# EAGLE library part SX1262 (library angrypig7-IC)
RF Transceiver FSK/GFSK/MSK/GMSK/LoRa/OOK 137MHz to 1020MHz 28-Pin QFN
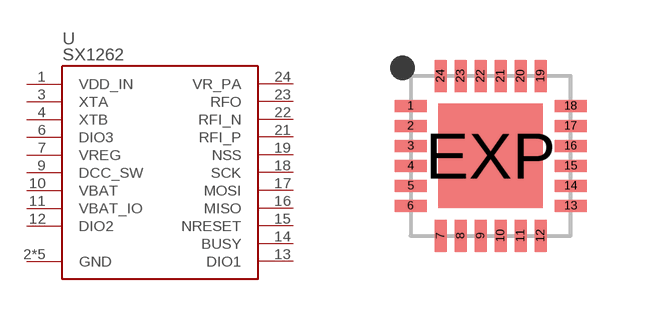
[diagram p11: symbol with the pads of QFN24; footprint QFN24]

Designator prefix U

## SX1262  [QFN24]
1  VDD_IN
2  GND  pwr
3  XTA
4  XTB
5  GND  pwr
6  DIO3
7  VREG
8  GND  pwr
9  DCC_SW
10  VBAT
11  VBAT_IO
12  DIO2
13  DIO1
14  BUSY
15  NRESET
16  MISO
17  MOSI
18  SCK
19  NSS
20  GND  pwr
21  RFI_P
22  RFI_N
23  RFO
24  VR_PA
EXP  GND  pwr

## Footprint QFN24 (pad centres in mm)
UF Package 24-Lead (4mm × 4mm) Plastic QFN Source: http://cds.linear.com/docs/Datasheet/5598f.pdf
smd 0.8 x 0.3: 1 -2,1.25; 2 -2,0.75; 3 -2,0.25; 4 -2,-0.25; 5 -2,-0.75; 6 -2,-1.25; 13 2,-1.25; 14 2,-0.75; 15 2,-0.25; 16 2,0.25; 17 2,0.75; 18 2,1.25
smd 0.3 x 0.8: 7 -1.25,-2; 8 -0.75,-2; 9 -0.25,-2; 10 0.25,-2; 11 0.75,-2; 12 1.25,-2; 19 1.25,2; 20 0.75,2; 21 0.25,2; 22 -0.25,2; 23 -0.75,2; 24 -1.25,2
smd 2.6 x 2.6: EXP 0,0